# EAGLE library part RASPBERRY_PI_HEADER (library HyTechDevices)
Based on source: peter6960 on raspberrypi.org <https://www.raspberrypi.org/forums/viewtopic.php?f=63&t=127228>
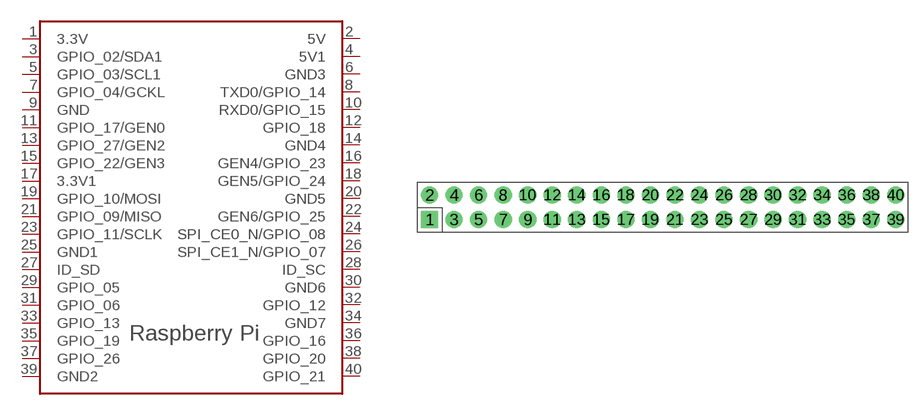
[diagram p77: symbol with the pads of RASPBERRY_PI_HEADER; footprint RASPBERRY_PI_HEADER]

Designator prefix -

## RASPBERRY_PI_HEADER  [RASPBERRY_PI_HEADER]
1  3.3V  sup
2  5V  sup
3  GPIO_02/SDA1
4  5V1  sup
5  GPIO_03/SCL1
6  GND3  sup
7  GPIO_04/GCKL
8  TXD0/GPIO_14
9  GND  sup
10  RXD0/GPIO_15
11  GPIO_17/GEN0
12  GPIO_18
13  GPIO_27/GEN2
14  GND4  sup
15  GPIO_22/GEN3
16  GEN4/GPIO_23
17  3.3V1  sup
18  GEN5/GPIO_24
19  GPIO_10/MOSI
20  GND5  sup
21  GPIO_09/MISO
22  GEN6/GPIO_25
23  GPIO_11/SCLK
24  SPI_CE0_N/GPIO_08
25  GND1  sup
26  SPI_CE1_N/GPIO_07
27  ID_SD
28  ID_SC
29  GPIO_05
30  GND6  sup
31  GPIO_06
32  GPIO_12
33  GPIO_13
34  GND7  sup
35  GPIO_19
36  GPIO_16
37  GPIO_26
38  GPIO_20
39  GND2  sup
40  GPIO_21

## Footprint RASPBERRY_PI_HEADER (pad centres in mm)
Raspberry Pi Header
drill 1 pad 1.778 square: 1 1.268,1.264
drill 1 pad 1.778: 2 1.268,3.804; 3 3.808,1.264; 4 3.808,3.804; 5 6.348,1.264; 6 6.348,3.804; 7 8.888,1.264; 8 8.888,3.804; 9 11.428,1.264; 10 11.428,3.804; 11 13.968,1.264; 12 13.968,3.804; 13 16.508,1.264; 14 16.508,3.804; 15 19.048,1.264; 16 19.048,3.804; 17 21.588,1.264; 18 21.588,3.804; 19 24.128,1.264; 20 24.128,3.804; 21 26.668,1.264; 22 26.668,3.804; 23 29.208,1.264; 24 29.208,3.804; 25 31.748,1.264; 26 31.748,3.804; 27 34.288,1.264; 28 34.288,3.804; 29 36.828,1.264; 30 36.828,3.804; 31 39.368,1.264; 32 39.368,3.804; 33 41.908,1.264; 34 41.908,3.804; 35 44.448,1.264; 36 44.448,3.804; 37 46.988,1.264; 38 46.988,3.804; 39 49.528,1.264; 40 49.528,3.804